# Altium schematic symbol library ISSI SRAM ASynchronous SRAM High Speed Low Power.SchLib: 413 symbols (part 11 of 21)
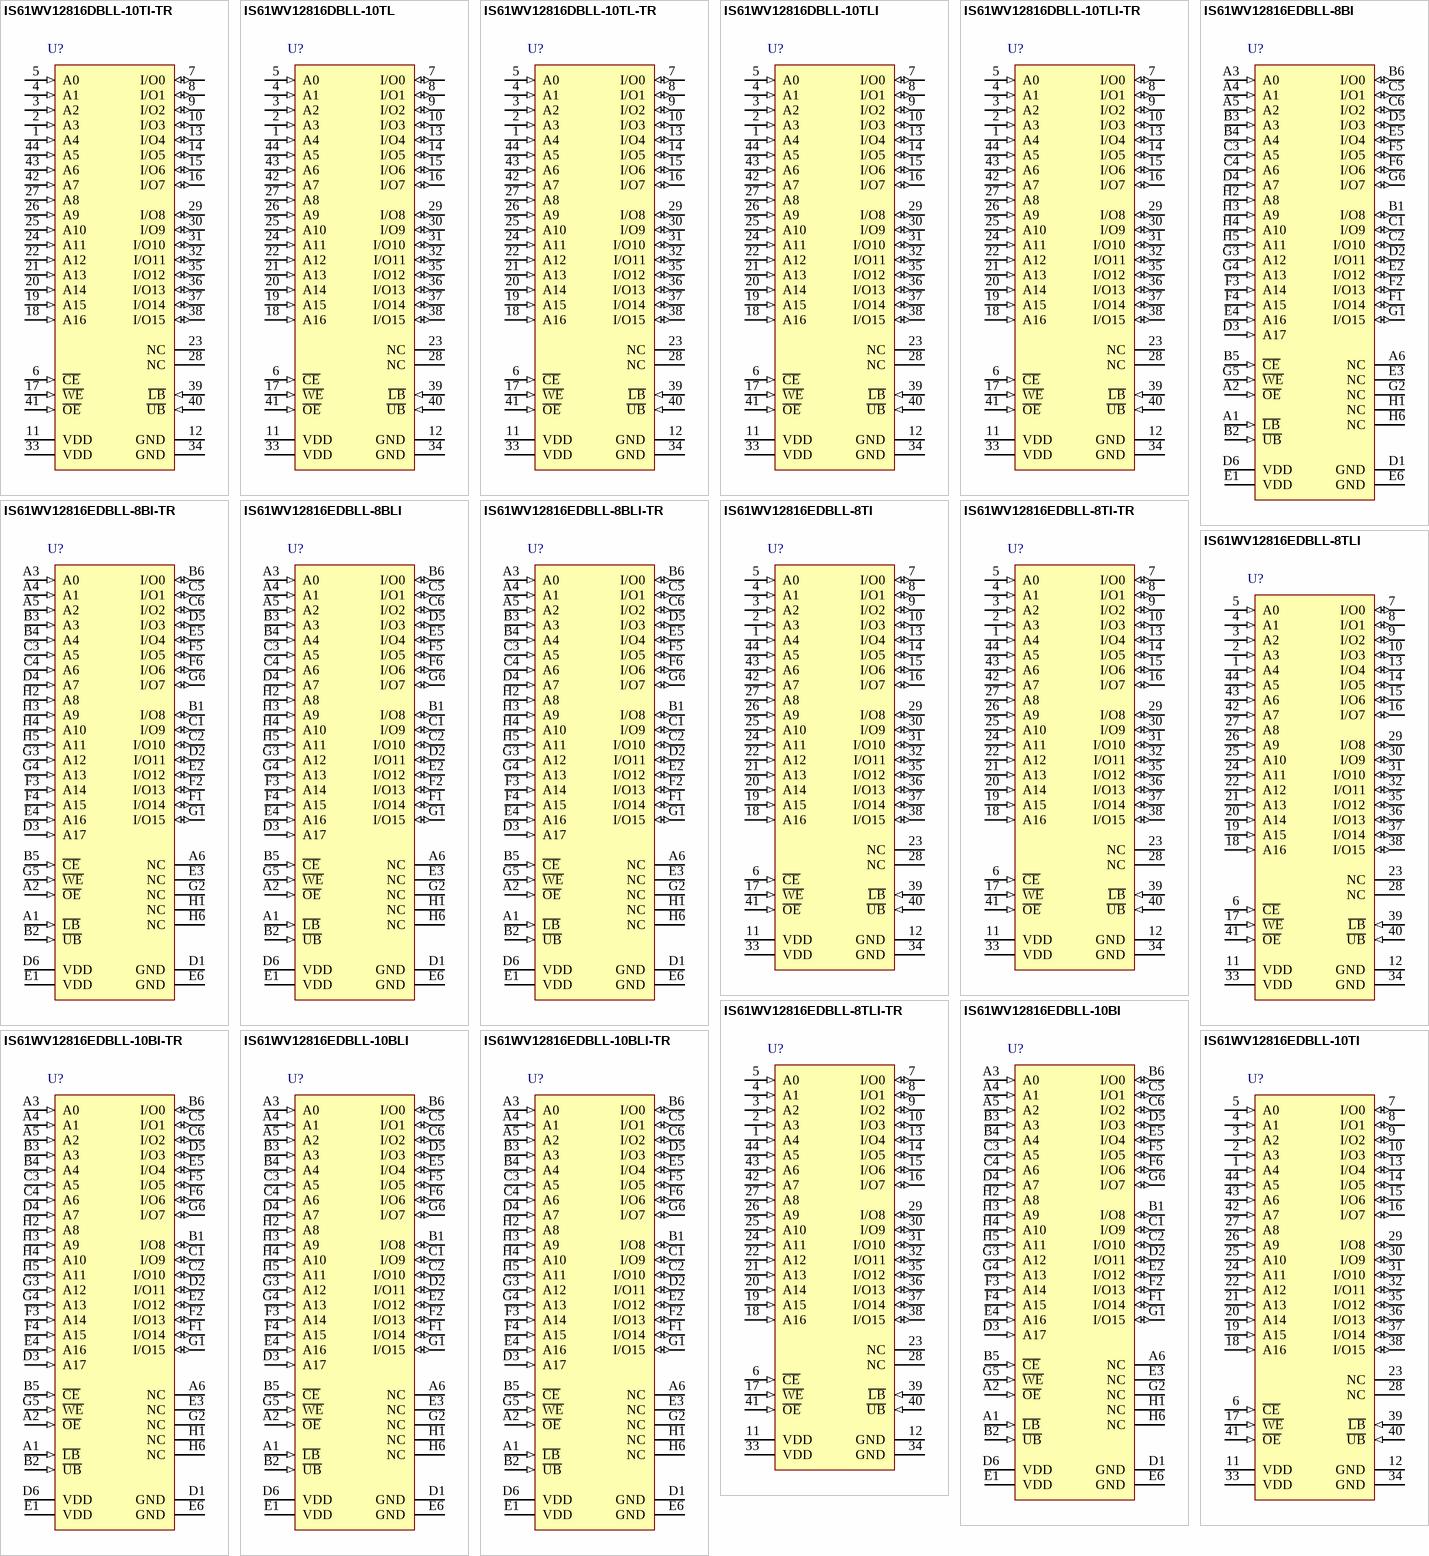
[diagram p38: symbols IS61WV12816DBLL-10TI-TR to IS61WV12816EDBLL-10TI]

## IS61WV12816EDBLL-10BI
designator U?
2 M High Speed Asynchronous CMOS SRAM with ECC, 128 K x 16, -40 to 85 degC, 48-Pin BGA (TF-BGA-48); Manufacturer: Integrated Silicon Solution Inc (ISSI); PartNumber: IS61WV12816EDBLL-10BI; Density: 2M; Packing: Tray / Tube; Speed (ns): 10; DatasheetVersion: Rev. A; PackageVersion: Rev. C, 08/2008; PackageReference: TF-BGA-48; PackageDescription: 48-Pin 6 x 8 mm TF-BGA, Pitch 0.75 mm; Organization: 128K x 16; Mounting Technology: Surface Mount; Code_JEDEC: MO-207; ComponentLink1Description: Manufacturer URL; ComponentLink1URL: http://www.issi.com/US/index.shtml; ComponentLink2Description: Datasheet; ComponentLink2URL: http://www.issi.com/WW/pdf/61-64WV12816EDBLL.pdf; ComponentLink3Description: Package Specification; ComponentLink3URL: http://www.issi.com/WW/pdf/61-64WV25616.pdf
footprint ISSI-TF-BGA-48-6000X8000DE (BGA, 48-Balls, Body 8x6mm, Pitch 0.75mm)
pins: A1 ~{LB} (in) "Lower-byte Control (I/O0-I/O7)", A2 ~{OE} (in) "Output Enable Input", A3 A0 (in) "Address Input", A4 A1 (in) "Address Input", A5 A2 (in) "Address Input", A6 NC "No Connection", B1 I/O8 (io) "Data Input/Output", B2 ~{UB} (in) "Upper-byte Control (I/O8-I/O15)", B3 A3 (in) "Address Input", B4 A4 (in) "Address Input", B5 ~{CE} (in) "Chip Enable Input", B6 I/O0 (io) "Data Input/Output", C1 I/O9 (io) "Data Input/Output", C2 I/O10 (io) "Data Input/Output", C3 A5 (in) "Address Input", C4 A6 (in) "Address Input", C5 I/O1 (io) "Data Input/Output", C6 I/O2 (io) "Data Input/Output", D1 GND (power) "Ground", D2 I/O11 (io) "Data Input/Output", D3 A17 (in) "Address Input", D4 A7 (in) "Address Input", D5 I/O3 (io) "Data Input/Output", D6 VDD (power) "Power", E1 VDD (power) "Power", E2 I/O12 (io) "Data Input/Output", E3 NC "No Connection", E4 A16 (in) "Address Input", E5 I/O4 (io) "Data Input/Output", E6 GND (power) "Ground", F1 I/O14 (io) "Data Input/Output", F2 I/O13 (io) "Data Input/Output", F3 A14 (in) "Address Input", F4 A15 (in) "Address Input", F5 I/O5 (io) "Data Input/Output", F6 I/O6 (io) "Data Input/Output", G1 I/O15 (io) "Data Input/Output", G2 NC "No Connection", G3 A12 (in) "Address Input", G4 A13 (in) "Address Input", G5 ~{WE} (in) "Write Enable Input", G6 I/O7 (io) "Data Input/Output", H1 NC "No Connection", H2 A8 (in) "Address Input", H3 A9 (in) "Address Input", H4 A10 (in) "Address Input", H5 A11 (in) "Address Input", H6 NC "No Connection"

## IS61WV12816EDBLL-10BI-TR
designator U?
2 M High Speed Asynchronous CMOS SRAM with ECC, 128 K x 16, -40 to 85 degC, 48-Pin BGA (TF-BGA-48); Manufacturer: Integrated Silicon Solution Inc (ISSI); PartNumber: IS61WV12816EDBLL-10BI-TR; Density: 2M; Packing: Tape & Reel; Speed (ns): 10; DatasheetVersion: Rev. A; PackageVersion: Rev. C, 08/2008; PackageReference: TF-BGA-48; PackageDescription: 48-Pin 6 x 8 mm TF-BGA, Pitch 0.75 mm; Organization: 128K x 16; Mounting Technology: Surface Mount; Code_JEDEC: MO-207; ComponentLink1Description: Manufacturer URL; ComponentLink1URL: http://www.issi.com/US/index.shtml; ComponentLink2Description: Datasheet; ComponentLink2URL: http://www.issi.com/WW/pdf/61-64WV12816EDBLL.pdf; ComponentLink3Description: Package Specification; ComponentLink3URL: http://www.issi.com/WW/pdf/61-64WV25616.pdf
footprint ISSI-TF-BGA-48-6000X8000DE (BGA, 48-Balls, Body 8x6mm, Pitch 0.75mm)
pins: A1 ~{LB} (in) "Lower-byte Control (I/O0-I/O7)", A2 ~{OE} (in) "Output Enable Input", A3 A0 (in) "Address Input", A4 A1 (in) "Address Input", A5 A2 (in) "Address Input", A6 NC "No Connection", B1 I/O8 (io) "Data Input/Output", B2 ~{UB} (in) "Upper-byte Control (I/O8-I/O15)", B3 A3 (in) "Address Input", B4 A4 (in) "Address Input", B5 ~{CE} (in) "Chip Enable Input", B6 I/O0 (io) "Data Input/Output", C1 I/O9 (io) "Data Input/Output", C2 I/O10 (io) "Data Input/Output", C3 A5 (in) "Address Input", C4 A6 (in) "Address Input", C5 I/O1 (io) "Data Input/Output", C6 I/O2 (io) "Data Input/Output", D1 GND (power) "Ground", D2 I/O11 (io) "Data Input/Output", D3 A17 (in) "Address Input", D4 A7 (in) "Address Input", D5 I/O3 (io) "Data Input/Output", D6 VDD (power) "Power", E1 VDD (power) "Power", E2 I/O12 (io) "Data Input/Output", E3 NC "No Connection", E4 A16 (in) "Address Input", E5 I/O4 (io) "Data Input/Output", E6 GND (power) "Ground", F1 I/O14 (io) "Data Input/Output", F2 I/O13 (io) "Data Input/Output", F3 A14 (in) "Address Input", F4 A15 (in) "Address Input", F5 I/O5 (io) "Data Input/Output", F6 I/O6 (io) "Data Input/Output", G1 I/O15 (io) "Data Input/Output", G2 NC "No Connection", G3 A12 (in) "Address Input", G4 A13 (in) "Address Input", G5 ~{WE} (in) "Write Enable Input", G6 I/O7 (io) "Data Input/Output", H1 NC "No Connection", H2 A8 (in) "Address Input", H3 A9 (in) "Address Input", H4 A10 (in) "Address Input", H5 A11 (in) "Address Input", H6 NC "No Connection"

## IS61WV12816EDBLL-10BLI
designator U?
2 M High Speed Asynchronous CMOS SRAM with ECC, 128 K x 16, -40 to 85 degC, 48-Pin BGA (TF-BGA-48), Pb-Free; Manufacturer: Integrated Silicon Solution Inc (ISSI); PartNumber: IS61WV12816EDBLL-10BLI; Density: 2M; Packing: Tray / Tube; Speed (ns): 10; DatasheetVersion: Rev. A; PackageVersion: Rev. C, 08/2008; PackageReference: TF-BGA-48; PackageDescription: 48-Pin 6 x 8 mm TF-BGA, Pitch 0.75 mm; Organization: 128K x 16; RoHS: Pb-Free; Mounting Technology: Surface Mount; Code_JEDEC: MO-207; ComponentLink1Description: Manufacturer URL; ComponentLink1URL: http://www.issi.com/US/index.shtml; ComponentLink2Description: Datasheet; ComponentLink2URL: http://www.issi.com/WW/pdf/61-64WV12816EDBLL.pdf; ComponentLink3Description: Package Specification; ComponentLink3URL: http://www.issi.com/WW/pdf/61-64WV25616.pdf
footprint ISSI-TF-BGA-48-6000X8000DE (BGA, 48-Balls, Body 8x6mm, Pitch 0.75mm)
pins: A1 ~{LB} (in) "Lower-byte Control (I/O0-I/O7)", A2 ~{OE} (in) "Output Enable Input", A3 A0 (in) "Address Input", A4 A1 (in) "Address Input", A5 A2 (in) "Address Input", A6 NC "No Connection", B1 I/O8 (io) "Data Input/Output", B2 ~{UB} (in) "Upper-byte Control (I/O8-I/O15)", B3 A3 (in) "Address Input", B4 A4 (in) "Address Input", B5 ~{CE} (in) "Chip Enable Input", B6 I/O0 (io) "Data Input/Output", C1 I/O9 (io) "Data Input/Output", C2 I/O10 (io) "Data Input/Output", C3 A5 (in) "Address Input", C4 A6 (in) "Address Input", C5 I/O1 (io) "Data Input/Output", C6 I/O2 (io) "Data Input/Output", D1 GND (power) "Ground", D2 I/O11 (io) "Data Input/Output", D3 A17 (in) "Address Input", D4 A7 (in) "Address Input", D5 I/O3 (io) "Data Input/Output", D6 VDD (power) "Power", E1 VDD (power) "Power", E2 I/O12 (io) "Data Input/Output", E3 NC "No Connection", E4 A16 (in) "Address Input", E5 I/O4 (io) "Data Input/Output", E6 GND (power) "Ground", F1 I/O14 (io) "Data Input/Output", F2 I/O13 (io) "Data Input/Output", F3 A14 (in) "Address Input", F4 A15 (in) "Address Input", F5 I/O5 (io) "Data Input/Output", F6 I/O6 (io) "Data Input/Output", G1 I/O15 (io) "Data Input/Output", G2 NC "No Connection", G3 A12 (in) "Address Input", G4 A13 (in) "Address Input", G5 ~{WE} (in) "Write Enable Input", G6 I/O7 (io) "Data Input/Output", H1 NC "No Connection", H2 A8 (in) "Address Input", H3 A9 (in) "Address Input", H4 A10 (in) "Address Input", H5 A11 (in) "Address Input", H6 NC "No Connection"

## IS61WV12816EDBLL-10BLI-TR
designator U?
2 M High Speed Asynchronous CMOS SRAM with ECC, 128 K x 16, -40 to 85 degC, 48-Pin BGA (TF-BGA-48), Pb-Free; Manufacturer: Integrated Silicon Solution Inc (ISSI); PartNumber: IS61WV12816EDBLL-10BLI-TR; Density: 2M; Packing: Tape & Reel; Speed (ns): 10; DatasheetVersion: Rev. A; PackageVersion: Rev. C, 08/2008; PackageReference: TF-BGA-48; PackageDescription: 48-Pin 6 x 8 mm TF-BGA, Pitch 0.75 mm; Organization: 128K x 16; RoHS: Pb-Free; Mounting Technology: Surface Mount; Code_JEDEC: MO-207; ComponentLink1Description: Manufacturer URL; ComponentLink1URL: http://www.issi.com/US/index.shtml; ComponentLink2Description: Datasheet; ComponentLink2URL: http://www.issi.com/WW/pdf/61-64WV12816EDBLL.pdf; ComponentLink3Description: Package Specification; ComponentLink3URL: http://www.issi.com/WW/pdf/61-64WV25616.pdf
footprint ISSI-TF-BGA-48-6000X8000DE (BGA, 48-Balls, Body 8x6mm, Pitch 0.75mm)
pins: A1 ~{LB} (in) "Lower-byte Control (I/O0-I/O7)", A2 ~{OE} (in) "Output Enable Input", A3 A0 (in) "Address Input", A4 A1 (in) "Address Input", A5 A2 (in) "Address Input", A6 NC "No Connection", B1 I/O8 (io) "Data Input/Output", B2 ~{UB} (in) "Upper-byte Control (I/O8-I/O15)", B3 A3 (in) "Address Input", B4 A4 (in) "Address Input", B5 ~{CE} (in) "Chip Enable Input", B6 I/O0 (io) "Data Input/Output", C1 I/O9 (io) "Data Input/Output", C2 I/O10 (io) "Data Input/Output", C3 A5 (in) "Address Input", C4 A6 (in) "Address Input", C5 I/O1 (io) "Data Input/Output", C6 I/O2 (io) "Data Input/Output", D1 GND (power) "Ground", D2 I/O11 (io) "Data Input/Output", D3 A17 (in) "Address Input", D4 A7 (in) "Address Input", D5 I/O3 (io) "Data Input/Output", D6 VDD (power) "Power", E1 VDD (power) "Power", E2 I/O12 (io) "Data Input/Output", E3 NC "No Connection", E4 A16 (in) "Address Input", E5 I/O4 (io) "Data Input/Output", E6 GND (power) "Ground", F1 I/O14 (io) "Data Input/Output", F2 I/O13 (io) "Data Input/Output", F3 A14 (in) "Address Input", F4 A15 (in) "Address Input", F5 I/O5 (io) "Data Input/Output", F6 I/O6 (io) "Data Input/Output", G1 I/O15 (io) "Data Input/Output", G2 NC "No Connection", G3 A12 (in) "Address Input", G4 A13 (in) "Address Input", G5 ~{WE} (in) "Write Enable Input", G6 I/O7 (io) "Data Input/Output", H1 NC "No Connection", H2 A8 (in) "Address Input", H3 A9 (in) "Address Input", H4 A10 (in) "Address Input", H5 A11 (in) "Address Input", H6 NC "No Connection"

## IS61WV12816EDBLL-10TI
designator U?
2 M High Speed Asynchronous CMOS SRAM with ECC, 128 K x 16, -40 to 85 degC, 44-Pin SOP (TSOP-2-44); Manufacturer: Integrated Silicon Solution Inc (ISSI); PartNumber: IS61WV12816EDBLL-10TI; Density: 2M; Packing: Tray / Tube; Speed (ns): 10; DatasheetVersion: Rev. A; PackageVersion: Rev. F, 06/2008; PackageReference: TSOP-2-44; PackageDescription: 44-Pin 400 mil TSOP-2, Body 18.41 x 10.16 mm, Pitch 0.8 mm; Organization: 128K x 16; Mounting Technology: Surface Mount; ComponentLink1Description: Manufacturer URL; ComponentLink1URL: http://www.issi.com/US/index.shtml; ComponentLink2Description: Datasheet; ComponentLink2URL: http://www.issi.com/WW/pdf/61-64WV12816EDBLL.pdf; ComponentLink3Description: Package Specification; ComponentLink3URL: http://www.issi.com/WW/pdf/61-64WV6416EEBLL.pdf
footprint ISSI-TSOP-2-44_N (SOP, 44-Leads, Body 18.5x10.3mm, Pitch 0.8mm, IPC Medium Density)
pins: 1 A4 (in) "Address Input", 2 A3 (in) "Address Input", 3 A2 (in) "Address Input", 4 A1 (in) "Address Input", 5 A0 (in) "Address Input", 6 ~{CE} (in) "Chip Enable Input", 7 I/O0 (io) "Data Input/Output", 8 I/O1 (io) "Data Input/Output", 9 I/O2 (io) "Data Input/Output", 10 I/O3 (io) "Data Input/Output", 11 VDD (power) "Power", 12 GND (power) "Ground", 13 I/O4 (io) "Data Input/Output", 14 I/O5 (io) "Data Input/Output", 15 I/O6 (io) "Data Input/Output", 16 I/O7 (io) "Data Input/Output", 17 ~{WE} (in) "Write Enable Input", 18 A16 (in) "Address Input", 19 A15 (in) "Address Input", 20 A14 (in) "Address Input", 21 A13 (in) "Address Input", 22 A12 (in) "Address Input", 23 NC "No Connection", 24 A11 (in) "Address Input", 25 A10 (in) "Address Input", 26 A9 (in) "Address Input", 27 A8 (in) "Address Input", 28 NC "No Connection", 29 I/O8 (io) "Data Input/Output", 30 I/O9 (io) "Data Input/Output", 31 I/O10 (io) "Data Input/Output", 32 I/O11 (io) "Data Input/Output", 33 VDD (power) "Power", 34 GND (power) "Ground", 35 I/O12 (io) "Data Input/Output", 36 I/O13 (io) "Data Input/Output", 37 I/O14 (io) "Data Input/Output", 38 I/O15 (io) "Data Input/Output", 39 ~{LB} (in) "Lower-byte Control (I/O0-I/O7)", 40 ~{UB} (in) "Upper-byte Control (I/O8-I/O15)", 41 ~{OE} (in) "Output Enable Input", 42 A7 (in) "Address Input", 43 A6 (in) "Address Input", 44 A5 (in) "Address Input"

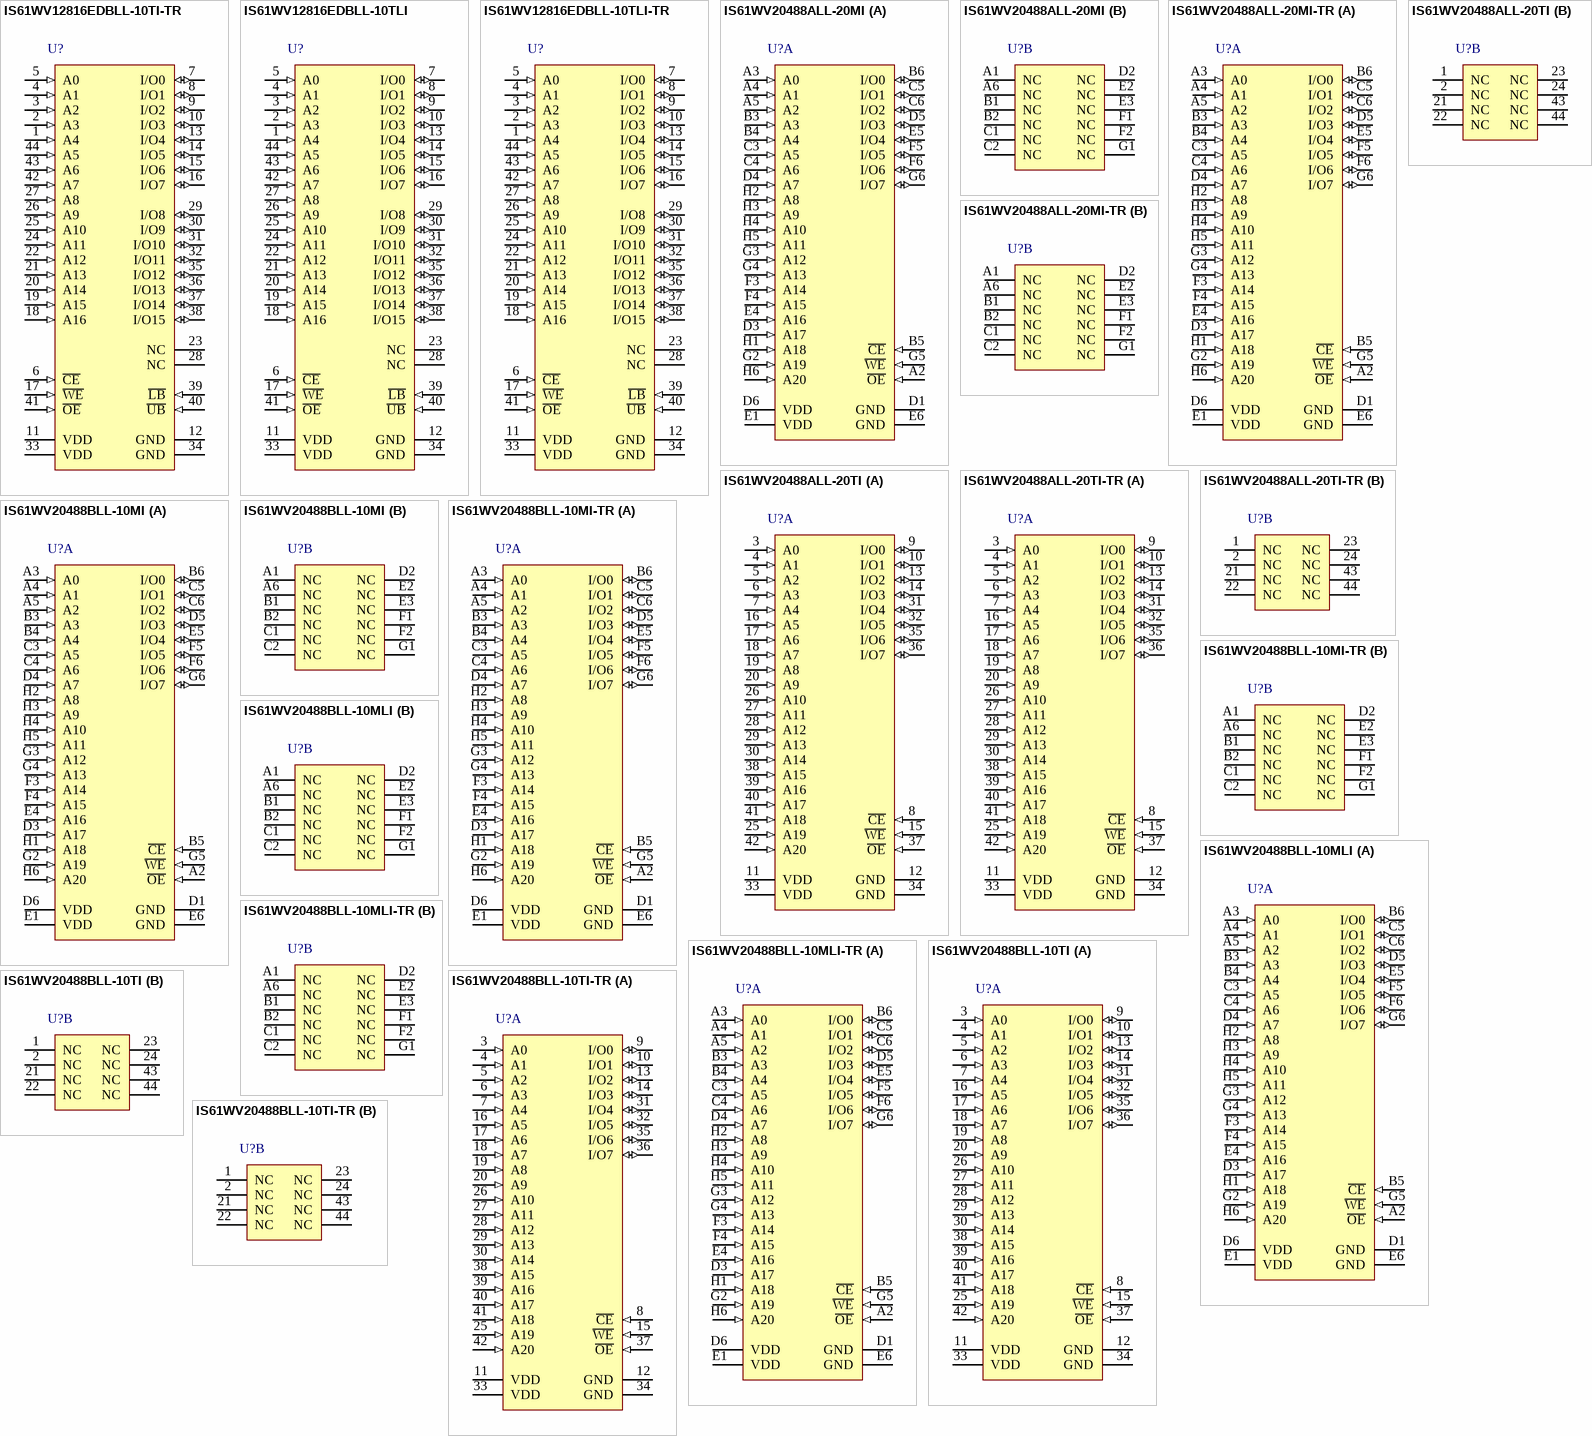
[diagram p15: symbols IS61WV12816EDBLL-10TI-TR to IS61WV20488BLL-10TI-TR]

## IS61WV12816EDBLL-10TI-TR
designator U?
2 M High Speed Asynchronous CMOS SRAM with ECC, 128 K x 16, -40 to 85 degC, 44-Pin SOP (TSOP-2-44); Manufacturer: Integrated Silicon Solution Inc (ISSI); PartNumber: IS61WV12816EDBLL-10TI-TR; Density: 2M; Packing: Tape & Reel; Speed (ns): 10; DatasheetVersion: Rev. A; PackageVersion: Rev. F, 06/2008; PackageReference: TSOP-2-44; PackageDescription: 44-Pin 400 mil TSOP-2, Body 18.41 x 10.16 mm, Pitch 0.8 mm; Organization: 128K x 16; Mounting Technology: Surface Mount; ComponentLink1Description: Manufacturer URL; ComponentLink1URL: http://www.issi.com/US/index.shtml; ComponentLink2Description: Datasheet; ComponentLink2URL: http://www.issi.com/WW/pdf/61-64WV12816EDBLL.pdf; ComponentLink3Description: Package Specification; ComponentLink3URL: http://www.issi.com/WW/pdf/61-64WV6416EEBLL.pdf
footprint ISSI-TSOP-2-44_N (SOP, 44-Leads, Body 18.5x10.3mm, Pitch 0.8mm, IPC Medium Density)
pins: 1 A4 (in) "Address Input", 2 A3 (in) "Address Input", 3 A2 (in) "Address Input", 4 A1 (in) "Address Input", 5 A0 (in) "Address Input", 6 ~{CE} (in) "Chip Enable Input", 7 I/O0 (io) "Data Input/Output", 8 I/O1 (io) "Data Input/Output", 9 I/O2 (io) "Data Input/Output", 10 I/O3 (io) "Data Input/Output", 11 VDD (power) "Power", 12 GND (power) "Ground", 13 I/O4 (io) "Data Input/Output", 14 I/O5 (io) "Data Input/Output", 15 I/O6 (io) "Data Input/Output", 16 I/O7 (io) "Data Input/Output", 17 ~{WE} (in) "Write Enable Input", 18 A16 (in) "Address Input", 19 A15 (in) "Address Input", 20 A14 (in) "Address Input", 21 A13 (in) "Address Input", 22 A12 (in) "Address Input", 23 NC "No Connection", 24 A11 (in) "Address Input", 25 A10 (in) "Address Input", 26 A9 (in) "Address Input", 27 A8 (in) "Address Input", 28 NC "No Connection", 29 I/O8 (io) "Data Input/Output", 30 I/O9 (io) "Data Input/Output", 31 I/O10 (io) "Data Input/Output", 32 I/O11 (io) "Data Input/Output", 33 VDD (power) "Power", 34 GND (power) "Ground", 35 I/O12 (io) "Data Input/Output", 36 I/O13 (io) "Data Input/Output", 37 I/O14 (io) "Data Input/Output", 38 I/O15 (io) "Data Input/Output", 39 ~{LB} (in) "Lower-byte Control (I/O0-I/O7)", 40 ~{UB} (in) "Upper-byte Control (I/O8-I/O15)", 41 ~{OE} (in) "Output Enable Input", 42 A7 (in) "Address Input", 43 A6 (in) "Address Input", 44 A5 (in) "Address Input"

## IS61WV12816EDBLL-10TLI
designator U?
2 M High Speed Asynchronous CMOS SRAM with ECC, 128 K x 16, -40 to 85 degC, 44-Pin SOP (TSOP-2-44), Pb-Free; Manufacturer: Integrated Silicon Solution Inc (ISSI); PartNumber: IS61WV12816EDBLL-10TLI; Density: 2M; Packing: Tray / Tube; Speed (ns): 10; DatasheetVersion: Rev. A; PackageVersion: Rev. F, 06/2008; PackageReference: TSOP-2-44; PackageDescription: 44-Pin 400 mil TSOP-2, Body 18.41 x 10.16 mm, Pitch 0.8 mm; Supplier 1: Newark; Supplier Part Number 1: 77T0762; Supplier 2: Mouser; Supplier Part Number 2: 870-61WV12816D10TLI; Organization: 128K x 16; RoHS: Pb-Free; Mounting Technology: Surface Mount; ComponentLink1Description: Manufacturer URL; ComponentLink1URL: http://www.issi.com/US/index.shtml; ComponentLink2Description: Datasheet; ComponentLink2URL: http://www.issi.com/WW/pdf/61-64WV12816EDBLL.pdf; ComponentLink3Description: Package Specification; ComponentLink3URL: http://www.issi.com/WW/pdf/61-64WV6416EEBLL.pdf
footprint ISSI-TSOP-2-44_N (SOP, 44-Leads, Body 18.5x10.3mm, Pitch 0.8mm, IPC Medium Density)
pins: 1 A4 (in) "Address Input", 2 A3 (in) "Address Input", 3 A2 (in) "Address Input", 4 A1 (in) "Address Input", 5 A0 (in) "Address Input", 6 ~{CE} (in) "Chip Enable Input", 7 I/O0 (io) "Data Input/Output", 8 I/O1 (io) "Data Input/Output", 9 I/O2 (io) "Data Input/Output", 10 I/O3 (io) "Data Input/Output", 11 VDD (power) "Power", 12 GND (power) "Ground", 13 I/O4 (io) "Data Input/Output", 14 I/O5 (io) "Data Input/Output", 15 I/O6 (io) "Data Input/Output", 16 I/O7 (io) "Data Input/Output", 17 ~{WE} (in) "Write Enable Input", 18 A16 (in) "Address Input", 19 A15 (in) "Address Input", 20 A14 (in) "Address Input", 21 A13 (in) "Address Input", 22 A12 (in) "Address Input", 23 NC "No Connection", 24 A11 (in) "Address Input", 25 A10 (in) "Address Input", 26 A9 (in) "Address Input", 27 A8 (in) "Address Input", 28 NC "No Connection", 29 I/O8 (io) "Data Input/Output", 30 I/O9 (io) "Data Input/Output", 31 I/O10 (io) "Data Input/Output", 32 I/O11 (io) "Data Input/Output", 33 VDD (power) "Power", 34 GND (power) "Ground", 35 I/O12 (io) "Data Input/Output", 36 I/O13 (io) "Data Input/Output", 37 I/O14 (io) "Data Input/Output", 38 I/O15 (io) "Data Input/Output", 39 ~{LB} (in) "Lower-byte Control (I/O0-I/O7)", 40 ~{UB} (in) "Upper-byte Control (I/O8-I/O15)", 41 ~{OE} (in) "Output Enable Input", 42 A7 (in) "Address Input", 43 A6 (in) "Address Input", 44 A5 (in) "Address Input"

## IS61WV12816EDBLL-10TLI-TR
designator U?
2 M High Speed Asynchronous CMOS SRAM with ECC, 128 K x 16, -40 to 85 degC, 44-Pin SOP (TSOP-2-44), Pb-Free; Manufacturer: Integrated Silicon Solution Inc (ISSI); PartNumber: IS61WV12816EDBLL-10TLI-TR; Density: 2M; Packing: Tape & Reel; Speed (ns): 10; DatasheetVersion: Rev. A; PackageVersion: Rev. F, 06/2008; PackageReference: TSOP-2-44; PackageDescription: 44-Pin 400 mil TSOP-2, Body 18.41 x 10.16 mm, Pitch 0.8 mm; Supplier 1: Newark; Supplier Part Number 1: 77T0763; Supplier 2: Mouser; Supplier Part Number 2: 870-6112816EDLL10TLI; Organization: 128K x 16; RoHS: Pb-Free; Mounting Technology: Surface Mount; ComponentLink1Description: Manufacturer URL; ComponentLink1URL: http://www.issi.com/US/index.shtml; ComponentLink2Description: Datasheet; ComponentLink2URL: http://www.issi.com/WW/pdf/61-64WV12816EDBLL.pdf; ComponentLink3Description: Package Specification; ComponentLink3URL: http://www.issi.com/WW/pdf/61-64WV6416EEBLL.pdf
footprint ISSI-TSOP-2-44_N (SOP, 44-Leads, Body 18.5x10.3mm, Pitch 0.8mm, IPC Medium Density)
pins: 1 A4 (in) "Address Input", 2 A3 (in) "Address Input", 3 A2 (in) "Address Input", 4 A1 (in) "Address Input", 5 A0 (in) "Address Input", 6 ~{CE} (in) "Chip Enable Input", 7 I/O0 (io) "Data Input/Output", 8 I/O1 (io) "Data Input/Output", 9 I/O2 (io) "Data Input/Output", 10 I/O3 (io) "Data Input/Output", 11 VDD (power) "Power", 12 GND (power) "Ground", 13 I/O4 (io) "Data Input/Output", 14 I/O5 (io) "Data Input/Output", 15 I/O6 (io) "Data Input/Output", 16 I/O7 (io) "Data Input/Output", 17 ~{WE} (in) "Write Enable Input", 18 A16 (in) "Address Input", 19 A15 (in) "Address Input", 20 A14 (in) "Address Input", 21 A13 (in) "Address Input", 22 A12 (in) "Address Input", 23 NC "No Connection", 24 A11 (in) "Address Input", 25 A10 (in) "Address Input", 26 A9 (in) "Address Input", 27 A8 (in) "Address Input", 28 NC "No Connection", 29 I/O8 (io) "Data Input/Output", 30 I/O9 (io) "Data Input/Output", 31 I/O10 (io) "Data Input/Output", 32 I/O11 (io) "Data Input/Output", 33 VDD (power) "Power", 34 GND (power) "Ground", 35 I/O12 (io) "Data Input/Output", 36 I/O13 (io) "Data Input/Output", 37 I/O14 (io) "Data Input/Output", 38 I/O15 (io) "Data Input/Output", 39 ~{LB} (in) "Lower-byte Control (I/O0-I/O7)", 40 ~{UB} (in) "Upper-byte Control (I/O8-I/O15)", 41 ~{OE} (in) "Output Enable Input", 42 A7 (in) "Address Input", 43 A6 (in) "Address Input", 44 A5 (in) "Address Input"

## IS61WV20488ALL-20MI
designator U?
16 M High Speed CMOS SRAM, 2 M x 8, -40 to 85 degC, 48-Pin BGA (TF-BGA-48); Manufacturer: Integrated Silicon Solution Inc (ISSI); PartNumber: IS61WV20488ALL-20MI; Organization: 2M x 8; Packing: Tray / Tube; Speed (ns): 20; DatasheetVersion: Rev. B; PackageVersion: Rev. B, 08/2008; PackageReference: TF-BGA-48; PackageDescription: 48-Pin 9 x 11 mm TF-BGA, Pitch 0.75 mm; Mounting Technology: Surface Mount; Code_JEDEC: MO-207; ComponentLink1Description: Manufacturer URL; ComponentLink1URL: http://www.issi.com/US/index.shtml; ComponentLink2Description: Datasheet; ComponentLink2URL: http://www.issi.com/WW/pdf/61-64WV20488.pdf; ComponentLink3Description: Package Specification; ComponentLink3URL: http://www.issi.com/WW/pdf/61-64WV51216.pdf
footprint ISSI-TF-BGA-48-9000x11000DE (BGA, 48-Balls, Body 11x9mm, Pitch 0.75mm)
part A pins: A2 ~{OE} (in) "Output Enable Input", A3 A0 (in) "Address Input", A4 A1 (in) "Address Input", A5 A2 (in) "Address Input", B3 A3 (in) "Address Input", B4 A4 (in) "Address Input", B5 ~{CE} (in) "Chip Enable Input", B6 I/O0 (io) "Data Input / Output", C3 A5 (in) "Address Input", C4 A6 (in) "Address Input", C5 I/O1 (io) "Data Input / Output", C6 I/O2 (io) "Data Input / Output", D1 GND (power) "Ground", D3 A17 (in) "Address Input", D4 A7 (in) "Address Input", D5 I/O3 (io) "Data Input / Output", D6 VDD (power) "Power", E1 VDD (power) "Power", E4 A16 (in) "Address Input", E5 I/O4 (io) "Data Input / Output", E6 GND (power) "Ground", F3 A14 (in) "Address Input", F4 A15 (in) "Address Input", F5 I/O5 (io) "Data Input / Output", F6 I/O6 (io) "Data Input / Output", G2 A19 (in) "Address Input", G3 A12 (in) "Address Input", G4 A13 (in) "Address Input", G5 ~{WE} (in) "Write Enable Input", G6 I/O7 (io) "Data Input / Output", H1 A18 (in) "Address Input", H2 A8 (in) "Address Input", H3 A9 (in) "Address Input", H4 A10 (in) "Address Input", H5 A11 (in) "Address Input", H6 A20 (in) "Address Input"
part B pins: A1 NC "No Connection", A6 NC "No Connection", B1 NC "No Connection", B2 NC "No Connection", C1 NC "No Connection", C2 NC "No Connection", D2 NC "No Connection", E2 NC "No Connection", E3 NC "No Connection", F1 NC "No Connection", F2 NC "No Connection", G1 NC "No Connection"

## IS61WV20488ALL-20MI-TR
designator U?
16 M High Speed CMOS SRAM, 2 M x 8, -40 to 85 degC, 48-Pin BGA (TF-BGA-48); Manufacturer: Integrated Silicon Solution Inc (ISSI); PartNumber: IS61WV20488ALL-20MI-TR; Organization: 2M x 8; Packing: Tape & Reel; Speed (ns): 20; DatasheetVersion: Rev. B; PackageVersion: Rev. B, 08/2008; PackageReference: TF-BGA-48; PackageDescription: 48-Pin 9 x 11 mm TF-BGA, Pitch 0.75 mm; Mounting Technology: Surface Mount; Code_JEDEC: MO-207; ComponentLink1Description: Manufacturer URL; ComponentLink1URL: http://www.issi.com/US/index.shtml; ComponentLink2Description: Datasheet; ComponentLink2URL: http://www.issi.com/WW/pdf/61-64WV20488.pdf; ComponentLink3Description: Package Specification; ComponentLink3URL: http://www.issi.com/WW/pdf/61-64WV51216.pdf
footprint ISSI-TF-BGA-48-9000x11000DE (BGA, 48-Balls, Body 11x9mm, Pitch 0.75mm)
part A pins: A2 ~{OE} (in) "Output Enable Input", A3 A0 (in) "Address Input", A4 A1 (in) "Address Input", A5 A2 (in) "Address Input", B3 A3 (in) "Address Input", B4 A4 (in) "Address Input", B5 ~{CE} (in) "Chip Enable Input", B6 I/O0 (io) "Data Input / Output", C3 A5 (in) "Address Input", C4 A6 (in) "Address Input", C5 I/O1 (io) "Data Input / Output", C6 I/O2 (io) "Data Input / Output", D1 GND (power) "Ground", D3 A17 (in) "Address Input", D4 A7 (in) "Address Input", D5 I/O3 (io) "Data Input / Output", D6 VDD (power) "Power", E1 VDD (power) "Power", E4 A16 (in) "Address Input", E5 I/O4 (io) "Data Input / Output", E6 GND (power) "Ground", F3 A14 (in) "Address Input", F4 A15 (in) "Address Input", F5 I/O5 (io) "Data Input / Output", F6 I/O6 (io) "Data Input / Output", G2 A19 (in) "Address Input", G3 A12 (in) "Address Input", G4 A13 (in) "Address Input", G5 ~{WE} (in) "Write Enable Input", G6 I/O7 (io) "Data Input / Output", H1 A18 (in) "Address Input", H2 A8 (in) "Address Input", H3 A9 (in) "Address Input", H4 A10 (in) "Address Input", H5 A11 (in) "Address Input", H6 A20 (in) "Address Input"
part B pins: A1 NC "No Connection", A6 NC "No Connection", B1 NC "No Connection", B2 NC "No Connection", C1 NC "No Connection", C2 NC "No Connection", D2 NC "No Connection", E2 NC "No Connection", E3 NC "No Connection", F1 NC "No Connection", F2 NC "No Connection", G1 NC "No Connection"

## IS61WV20488ALL-20TI
designator U?
16 M High Speed CMOS SRAM, 2 M x 8, -40 to 85 degC, 44-Pin SOP (TSOP-2-44); Manufacturer: Integrated Silicon Solution Inc (ISSI); PartNumber: IS61WV20488ALL-20TI; Organization: 2M x 8; Packing: Tray / Tube; Speed (ns): 20; DatasheetVersion: Rev. B; PackageVersion: Rev. F, 06/2008; PackageReference: TSOP-2-44; PackageDescription: 44-Pin 400 mil TSOP-2, Body 18.41 x 10.16 mm, Pitch 0.8 mm; Mounting Technology: Surface Mount; ComponentLink1Description: Manufacturer URL; ComponentLink1URL: http://www.issi.com/US/index.shtml; ComponentLink2Description: Datasheet; ComponentLink2URL: http://www.issi.com/WW/pdf/61-64WV20488.pdf; ComponentLink3Description: Package Specification; ComponentLink3URL: http://www.issi.com/WW/pdf/61-64WV6416EEBLL.pdf
footprint ISSI-TSOP-2-44_N (SOP, 44-Leads, Body 18.5x10.3mm, Pitch 0.8mm, IPC Medium Density)
part A pins: 3 A0 (in) "Address Inputs", 4 A1 (in) "Address Inputs", 5 A2 (in) "Address Inputs", 6 A3 (in) "Address Inputs", 7 A4 (in) "Address Inputs", 8 ~{CE} (in) "Chip Enable Input", 9 I/O0 (io) "Data Input / Output", 10 I/O1 (io) "Data Input / Output", 11 VDD (power) "Power", 12 GND (power) "Ground", 13 I/O2 (io) "Data Input / Output", 14 I/O3 (io) "Data Input / Output", 15 ~{WE} (in) "Write Enable Input", 16 A5 (in) "Address Inputs", 17 A6 (in) "Address Inputs", 18 A7 (in) "Address Inputs", 19 A8 (in) "Address Inputs", 20 A9 (in) "Address Inputs", 25 A19 (in) "Address Inputs", 26 A10 (in) "Address Inputs", 27 A11 (in) "Address Inputs", 28 A12 (in) "Address Inputs", 29 A13 (in) "Address Inputs", 30 A14 (in) "Address Inputs", 31 I/O4 (io) "Data Input / Output", 32 I/O5 (io) "Data Input / Output", 33 VDD (power) "Power", 34 GND (power) "Ground", 35 I/O6 (io) "Data Input / Output", 36 I/O7 (io) "Data Input / Output", 37 ~{OE} (in) "Output Enable Input", 38 A15 (in) "Address Inputs", 39 A16 (in) "Address Inputs", 40 A17 (in) "Address Inputs", 41 A18 (in) "Address Inputs", 42 A20 (in) "Address Inputs"
part B pins: 1 NC "No Connection", 2 NC "No Connection", 21 NC "No Connection", 22 NC "No Connection", 23 NC "No Connection", 24 NC "No Connection", 43 NC "No Connection", 44 NC "No Connection"

## IS61WV20488ALL-20TI-TR
designator U?
16 M High Speed CMOS SRAM, 2 M x 8, -40 to 85 degC, 44-Pin SOP (TSOP-2-44); Manufacturer: Integrated Silicon Solution Inc (ISSI); PartNumber: IS61WV20488ALL-20TI-TR; Organization: 2M x 8; Packing: Tape & Reel; Speed (ns): 20; DatasheetVersion: Rev. B; PackageVersion: Rev. F, 06/2008; PackageReference: TSOP-2-44; PackageDescription: 44-Pin 400 mil TSOP-2, Body 18.41 x 10.16 mm, Pitch 0.8 mm; Mounting Technology: Surface Mount; ComponentLink1Description: Manufacturer URL; ComponentLink1URL: http://www.issi.com/US/index.shtml; ComponentLink2Description: Datasheet; ComponentLink2URL: http://www.issi.com/WW/pdf/61-64WV20488.pdf; ComponentLink3Description: Package Specification; ComponentLink3URL: http://www.issi.com/WW/pdf/61-64WV6416EEBLL.pdf
footprint ISSI-TSOP-2-44_N (SOP, 44-Leads, Body 18.5x10.3mm, Pitch 0.8mm, IPC Medium Density)
part A pins: 3 A0 (in) "Address Inputs", 4 A1 (in) "Address Inputs", 5 A2 (in) "Address Inputs", 6 A3 (in) "Address Inputs", 7 A4 (in) "Address Inputs", 8 ~{CE} (in) "Chip Enable Input", 9 I/O0 (io) "Data Input / Output", 10 I/O1 (io) "Data Input / Output", 11 VDD (power) "Power", 12 GND (power) "Ground", 13 I/O2 (io) "Data Input / Output", 14 I/O3 (io) "Data Input / Output", 15 ~{WE} (in) "Write Enable Input", 16 A5 (in) "Address Inputs", 17 A6 (in) "Address Inputs", 18 A7 (in) "Address Inputs", 19 A8 (in) "Address Inputs", 20 A9 (in) "Address Inputs", 25 A19 (in) "Address Inputs", 26 A10 (in) "Address Inputs", 27 A11 (in) "Address Inputs", 28 A12 (in) "Address Inputs", 29 A13 (in) "Address Inputs", 30 A14 (in) "Address Inputs", 31 I/O4 (io) "Data Input / Output", 32 I/O5 (io) "Data Input / Output", 33 VDD (power) "Power", 34 GND (power) "Ground", 35 I/O6 (io) "Data Input / Output", 36 I/O7 (io) "Data Input / Output", 37 ~{OE} (in) "Output Enable Input", 38 A15 (in) "Address Inputs", 39 A16 (in) "Address Inputs", 40 A17 (in) "Address Inputs", 41 A18 (in) "Address Inputs", 42 A20 (in) "Address Inputs"
part B pins: 1 NC "No Connection", 2 NC "No Connection", 21 NC "No Connection", 22 NC "No Connection", 23 NC "No Connection", 24 NC "No Connection", 43 NC "No Connection", 44 NC "No Connection"

## IS61WV20488BLL-10MI
designator U?
16 M High Speed CMOS SRAM, 2 M x 8, -40 to 85 degC, 48-Pin BGA (TF-BGA-48); Manufacturer: Integrated Silicon Solution Inc (ISSI); PartNumber: IS61WV20488BLL-10MI; Organization: 2M x 8; Packing: Tray / Tube; Speed (ns): 10; DatasheetVersion: Rev. B; PackageVersion: Rev. B, 08/2008; PackageReference: TF-BGA-48; PackageDescription: 48-Pin 9 x 11 mm TF-BGA, Pitch 0.75 mm; Mounting Technology: Surface Mount; Code_JEDEC: MO-207; ComponentLink1Description: Manufacturer URL; ComponentLink1URL: http://www.issi.com/US/index.shtml; ComponentLink2Description: Datasheet; ComponentLink2URL: http://www.issi.com/WW/pdf/61-64WV20488.pdf; ComponentLink3Description: Package Specification; ComponentLink3URL: http://www.issi.com/WW/pdf/61-64WV51216.pdf
footprint ISSI-TF-BGA-48-9000x11000DE (BGA, 48-Balls, Body 11x9mm, Pitch 0.75mm)
part A pins: A2 ~{OE} (in) "Output Enable Input", A3 A0 (in) "Address Input", A4 A1 (in) "Address Input", A5 A2 (in) "Address Input", B3 A3 (in) "Address Input", B4 A4 (in) "Address Input", B5 ~{CE} (in) "Chip Enable Input", B6 I/O0 (io) "Data Input / Output", C3 A5 (in) "Address Input", C4 A6 (in) "Address Input", C5 I/O1 (io) "Data Input / Output", C6 I/O2 (io) "Data Input / Output", D1 GND (power) "Ground", D3 A17 (in) "Address Input", D4 A7 (in) "Address Input", D5 I/O3 (io) "Data Input / Output", D6 VDD (power) "Power", E1 VDD (power) "Power", E4 A16 (in) "Address Input", E5 I/O4 (io) "Data Input / Output", E6 GND (power) "Ground", F3 A14 (in) "Address Input", F4 A15 (in) "Address Input", F5 I/O5 (io) "Data Input / Output", F6 I/O6 (io) "Data Input / Output", G2 A19 (in) "Address Input", G3 A12 (in) "Address Input", G4 A13 (in) "Address Input", G5 ~{WE} (in) "Write Enable Input", G6 I/O7 (io) "Data Input / Output", H1 A18 (in) "Address Input", H2 A8 (in) "Address Input", H3 A9 (in) "Address Input", H4 A10 (in) "Address Input", H5 A11 (in) "Address Input", H6 A20 (in) "Address Input"
part B pins: A1 NC "No Connection", A6 NC "No Connection", B1 NC "No Connection", B2 NC "No Connection", C1 NC "No Connection", C2 NC "No Connection", D2 NC "No Connection", E2 NC "No Connection", E3 NC "No Connection", F1 NC "No Connection", F2 NC "No Connection", G1 NC "No Connection"

## IS61WV20488BLL-10MI-TR
designator U?
16 M High Speed CMOS SRAM, 2 M x 8, -40 to 85 degC, 48-Pin BGA (TF-BGA-48); Manufacturer: Integrated Silicon Solution Inc (ISSI); PartNumber: IS61WV20488BLL-10MI-TR; Organization: 2M x 8; Packing: Tape & Reel; Speed (ns): 10; DatasheetVersion: Rev. B; PackageVersion: Rev. B, 08/2008; PackageReference: TF-BGA-48; PackageDescription: 48-Pin 9 x 11 mm TF-BGA, Pitch 0.75 mm; Mounting Technology: Surface Mount; Code_JEDEC: MO-207; ComponentLink1Description: Manufacturer URL; ComponentLink1URL: http://www.issi.com/US/index.shtml; ComponentLink2Description: Datasheet; ComponentLink2URL: http://www.issi.com/WW/pdf/61-64WV20488.pdf; ComponentLink3Description: Package Specification; ComponentLink3URL: http://www.issi.com/WW/pdf/61-64WV51216.pdf
footprint ISSI-TF-BGA-48-9000x11000DE (BGA, 48-Balls, Body 11x9mm, Pitch 0.75mm)
part A pins: A2 ~{OE} (in) "Output Enable Input", A3 A0 (in) "Address Input", A4 A1 (in) "Address Input", A5 A2 (in) "Address Input", B3 A3 (in) "Address Input", B4 A4 (in) "Address Input", B5 ~{CE} (in) "Chip Enable Input", B6 I/O0 (io) "Data Input / Output", C3 A5 (in) "Address Input", C4 A6 (in) "Address Input", C5 I/O1 (io) "Data Input / Output", C6 I/O2 (io) "Data Input / Output", D1 GND (power) "Ground", D3 A17 (in) "Address Input", D4 A7 (in) "Address Input", D5 I/O3 (io) "Data Input / Output", D6 VDD (power) "Power", E1 VDD (power) "Power", E4 A16 (in) "Address Input", E5 I/O4 (io) "Data Input / Output", E6 GND (power) "Ground", F3 A14 (in) "Address Input", F4 A15 (in) "Address Input", F5 I/O5 (io) "Data Input / Output", F6 I/O6 (io) "Data Input / Output", G2 A19 (in) "Address Input", G3 A12 (in) "Address Input", G4 A13 (in) "Address Input", G5 ~{WE} (in) "Write Enable Input", G6 I/O7 (io) "Data Input / Output", H1 A18 (in) "Address Input", H2 A8 (in) "Address Input", H3 A9 (in) "Address Input", H4 A10 (in) "Address Input", H5 A11 (in) "Address Input", H6 A20 (in) "Address Input"
part B pins: A1 NC "No Connection", A6 NC "No Connection", B1 NC "No Connection", B2 NC "No Connection", C1 NC "No Connection", C2 NC "No Connection", D2 NC "No Connection", E2 NC "No Connection", E3 NC "No Connection", F1 NC "No Connection", F2 NC "No Connection", G1 NC "No Connection"

## IS61WV20488BLL-10MLI
designator U?
16 M High Speed CMOS SRAM, 2 M x 8, -40 to 85 degC, 48-Pin BGA (TF-BGA-48), Pb-Free; Manufacturer: Integrated Silicon Solution Inc (ISSI); PartNumber: IS61WV20488BLL-10MLI; Organization: 2M x 8; Packing: Tray / Tube; Speed (ns): 10; DatasheetVersion: Rev. B; PackageVersion: Rev. B, 08/2008; PackageReference: TF-BGA-48; PackageDescription: 48-Pin 9 x 11 mm TF-BGA, Pitch 0.75 mm; Supplier 1: Digi-Key; Supplier Part Number 1: IS61WV20488BLL-10MLI-ND; Supplier 2: Farnell; Supplier Part Number 2: 2253842; Supplier 3: Newark; Supplier Part Number 3: 53W9305; Supplier 4: Newark; Supplier Part Number 4: 43M5387; Supplier 5: Mouser; Supplier Part Number 5: 870-61WV20488B10MLI; RoHS: Pb-Free; Mounting Technology: Surface Mount; Code_JEDEC: MO-207; ComponentLink1Description: Manufacturer URL; ComponentLink1URL: http://www.issi.com/US/index.shtml; ComponentLink2Description: Datasheet; ComponentLink2URL: http://www.issi.com/WW/pdf/61-64WV20488.pdf; ComponentLink3Description: Package Specification; ComponentLink3URL: http://www.issi.com/WW/pdf/61-64WV51216.pdf
footprint ISSI-TF-BGA-48-9000x11000DE (BGA, 48-Balls, Body 11x9mm, Pitch 0.75mm)
part A pins: A2 ~{OE} (in) "Output Enable Input", A3 A0 (in) "Address Input", A4 A1 (in) "Address Input", A5 A2 (in) "Address Input", B3 A3 (in) "Address Input", B4 A4 (in) "Address Input", B5 ~{CE} (in) "Chip Enable Input", B6 I/O0 (io) "Data Input / Output", C3 A5 (in) "Address Input", C4 A6 (in) "Address Input", C5 I/O1 (io) "Data Input / Output", C6 I/O2 (io) "Data Input / Output", D1 GND (power) "Ground", D3 A17 (in) "Address Input", D4 A7 (in) "Address Input", D5 I/O3 (io) "Data Input / Output", D6 VDD (power) "Power", E1 VDD (power) "Power", E4 A16 (in) "Address Input", E5 I/O4 (io) "Data Input / Output", E6 GND (power) "Ground", F3 A14 (in) "Address Input", F4 A15 (in) "Address Input", F5 I/O5 (io) "Data Input / Output", F6 I/O6 (io) "Data Input / Output", G2 A19 (in) "Address Input", G3 A12 (in) "Address Input", G4 A13 (in) "Address Input", G5 ~{WE} (in) "Write Enable Input", G6 I/O7 (io) "Data Input / Output", H1 A18 (in) "Address Input", H2 A8 (in) "Address Input", H3 A9 (in) "Address Input", H4 A10 (in) "Address Input", H5 A11 (in) "Address Input", H6 A20 (in) "Address Input"
part B pins: A1 NC "No Connection", A6 NC "No Connection", B1 NC "No Connection", B2 NC "No Connection", C1 NC "No Connection", C2 NC "No Connection", D2 NC "No Connection", E2 NC "No Connection", E3 NC "No Connection", F1 NC "No Connection", F2 NC "No Connection", G1 NC "No Connection"

## IS61WV20488BLL-10MLI-TR
designator U?
16 M High Speed CMOS SRAM, 2 M x 8, -40 to 85 degC, 48-Pin BGA (TF-BGA-48), Pb-Free; Manufacturer: Integrated Silicon Solution Inc (ISSI); PartNumber: IS61WV20488BLL-10MLI-TR; Organization: 2M x 8; Packing: Tape & Reel; Speed (ns): 10; DatasheetVersion: Rev. B; PackageVersion: Rev. B, 08/2008; PackageReference: TF-BGA-48; PackageDescription: 48-Pin 9 x 11 mm TF-BGA, Pitch 0.75 mm; Supplier 1: Digi-Key; Supplier Part Number 1: IS61WV20488BLL-10MLI-TR-ND; Supplier 2: Mouser; Supplier Part Number 2: 870-61WV20488B10MLIT; RoHS: Pb-Free; Mounting Technology: Surface Mount; Code_JEDEC: MO-207; ComponentLink1Description: Manufacturer URL; ComponentLink1URL: http://www.issi.com/US/index.shtml; ComponentLink2Description: Datasheet; ComponentLink2URL: http://www.issi.com/WW/pdf/61-64WV20488.pdf; ComponentLink3Description: Package Specification; ComponentLink3URL: http://www.issi.com/WW/pdf/61-64WV51216.pdf
footprint ISSI-TF-BGA-48-9000x11000DE (BGA, 48-Balls, Body 11x9mm, Pitch 0.75mm)
part A pins: A2 ~{OE} (in) "Output Enable Input", A3 A0 (in) "Address Input", A4 A1 (in) "Address Input", A5 A2 (in) "Address Input", B3 A3 (in) "Address Input", B4 A4 (in) "Address Input", B5 ~{CE} (in) "Chip Enable Input", B6 I/O0 (io) "Data Input / Output", C3 A5 (in) "Address Input", C4 A6 (in) "Address Input", C5 I/O1 (io) "Data Input / Output", C6 I/O2 (io) "Data Input / Output", D1 GND (power) "Ground", D3 A17 (in) "Address Input", D4 A7 (in) "Address Input", D5 I/O3 (io) "Data Input / Output", D6 VDD (power) "Power", E1 VDD (power) "Power", E4 A16 (in) "Address Input", E5 I/O4 (io) "Data Input / Output", E6 GND (power) "Ground", F3 A14 (in) "Address Input", F4 A15 (in) "Address Input", F5 I/O5 (io) "Data Input / Output", F6 I/O6 (io) "Data Input / Output", G2 A19 (in) "Address Input", G3 A12 (in) "Address Input", G4 A13 (in) "Address Input", G5 ~{WE} (in) "Write Enable Input", G6 I/O7 (io) "Data Input / Output", H1 A18 (in) "Address Input", H2 A8 (in) "Address Input", H3 A9 (in) "Address Input", H4 A10 (in) "Address Input", H5 A11 (in) "Address Input", H6 A20 (in) "Address Input"
part B pins: A1 NC "No Connection", A6 NC "No Connection", B1 NC "No Connection", B2 NC "No Connection", C1 NC "No Connection", C2 NC "No Connection", D2 NC "No Connection", E2 NC "No Connection", E3 NC "No Connection", F1 NC "No Connection", F2 NC "No Connection", G1 NC "No Connection"

## IS61WV20488BLL-10TI
designator U?
16 M High Speed CMOS SRAM, 2 M x 8, -40 to 85 degC, 44-Pin SOP (TSOP-2-44); Manufacturer: Integrated Silicon Solution Inc (ISSI); PartNumber: IS61WV20488BLL-10TI; Organization: 2M x 8; Packing: Tray / Tube; Speed (ns): 10; DatasheetVersion: Rev. B; PackageVersion: Rev. F, 06/2008; PackageReference: TSOP-2-44; PackageDescription: 44-Pin 400 mil TSOP-2, Body 18.41 x 10.16 mm, Pitch 0.8 mm; Mounting Technology: Surface Mount; ComponentLink1Description: Manufacturer URL; ComponentLink1URL: http://www.issi.com/US/index.shtml; ComponentLink2Description: Datasheet; ComponentLink2URL: http://www.issi.com/WW/pdf/61-64WV20488.pdf; ComponentLink3Description: Package Specification; ComponentLink3URL: http://www.issi.com/WW/pdf/61-64WV6416EEBLL.pdf
footprint ISSI-TSOP-2-44_N (SOP, 44-Leads, Body 18.5x10.3mm, Pitch 0.8mm, IPC Medium Density)
part A pins: 3 A0 (in) "Address Inputs", 4 A1 (in) "Address Inputs", 5 A2 (in) "Address Inputs", 6 A3 (in) "Address Inputs", 7 A4 (in) "Address Inputs", 8 ~{CE} (in) "Chip Enable Input", 9 I/O0 (io) "Data Input / Output", 10 I/O1 (io) "Data Input / Output", 11 VDD (power) "Power", 12 GND (power) "Ground", 13 I/O2 (io) "Data Input / Output", 14 I/O3 (io) "Data Input / Output", 15 ~{WE} (in) "Write Enable Input", 16 A5 (in) "Address Inputs", 17 A6 (in) "Address Inputs", 18 A7 (in) "Address Inputs", 19 A8 (in) "Address Inputs", 20 A9 (in) "Address Inputs", 25 A19 (in) "Address Inputs", 26 A10 (in) "Address Inputs", 27 A11 (in) "Address Inputs", 28 A12 (in) "Address Inputs", 29 A13 (in) "Address Inputs", 30 A14 (in) "Address Inputs", 31 I/O4 (io) "Data Input / Output", 32 I/O5 (io) "Data Input / Output", 33 VDD (power) "Power", 34 GND (power) "Ground", 35 I/O6 (io) "Data Input / Output", 36 I/O7 (io) "Data Input / Output", 37 ~{OE} (in) "Output Enable Input", 38 A15 (in) "Address Inputs", 39 A16 (in) "Address Inputs", 40 A17 (in) "Address Inputs", 41 A18 (in) "Address Inputs", 42 A20 (in) "Address Inputs"
part B pins: 1 NC "No Connection", 2 NC "No Connection", 21 NC "No Connection", 22 NC "No Connection", 23 NC "No Connection", 24 NC "No Connection", 43 NC "No Connection", 44 NC "No Connection"

## IS61WV20488BLL-10TI-TR
designator U?
16 M High Speed CMOS SRAM, 2 M x 8, -40 to 85 degC, 44-Pin SOP (TSOP-2-44); Manufacturer: Integrated Silicon Solution Inc (ISSI); PartNumber: IS61WV20488BLL-10TI-TR; Organization: 2M x 8; Packing: Tape & Reel; Speed (ns): 10; DatasheetVersion: Rev. B; PackageVersion: Rev. F, 06/2008; PackageReference: TSOP-2-44; PackageDescription: 44-Pin 400 mil TSOP-2, Body 18.41 x 10.16 mm, Pitch 0.8 mm; Mounting Technology: Surface Mount; ComponentLink1Description: Manufacturer URL; ComponentLink1URL: http://www.issi.com/US/index.shtml; ComponentLink2Description: Datasheet; ComponentLink2URL: http://www.issi.com/WW/pdf/61-64WV20488.pdf; ComponentLink3Description: Package Specification; ComponentLink3URL: http://www.issi.com/WW/pdf/61-64WV6416EEBLL.pdf
footprint ISSI-TSOP-2-44_N (SOP, 44-Leads, Body 18.5x10.3mm, Pitch 0.8mm, IPC Medium Density)
part A pins: 3 A0 (in) "Address Inputs", 4 A1 (in) "Address Inputs", 5 A2 (in) "Address Inputs", 6 A3 (in) "Address Inputs", 7 A4 (in) "Address Inputs", 8 ~{CE} (in) "Chip Enable Input", 9 I/O0 (io) "Data Input / Output", 10 I/O1 (io) "Data Input / Output", 11 VDD (power) "Power", 12 GND (power) "Ground", 13 I/O2 (io) "Data Input / Output", 14 I/O3 (io) "Data Input / Output", 15 ~{WE} (in) "Write Enable Input", 16 A5 (in) "Address Inputs", 17 A6 (in) "Address Inputs", 18 A7 (in) "Address Inputs", 19 A8 (in) "Address Inputs", 20 A9 (in) "Address Inputs", 25 A19 (in) "Address Inputs", 26 A10 (in) "Address Inputs", 27 A11 (in) "Address Inputs", 28 A12 (in) "Address Inputs", 29 A13 (in) "Address Inputs", 30 A14 (in) "Address Inputs", 31 I/O4 (io) "Data Input / Output", 32 I/O5 (io) "Data Input / Output", 33 VDD (power) "Power", 34 GND (power) "Ground", 35 I/O6 (io) "Data Input / Output", 36 I/O7 (io) "Data Input / Output", 37 ~{OE} (in) "Output Enable Input", 38 A15 (in) "Address Inputs", 39 A16 (in) "Address Inputs", 40 A17 (in) "Address Inputs", 41 A18 (in) "Address Inputs", 42 A20 (in) "Address Inputs"
part B pins: 1 NC "No Connection", 2 NC "No Connection", 21 NC "No Connection", 22 NC "No Connection", 23 NC "No Connection", 24 NC "No Connection", 43 NC "No Connection", 44 NC "No Connection"

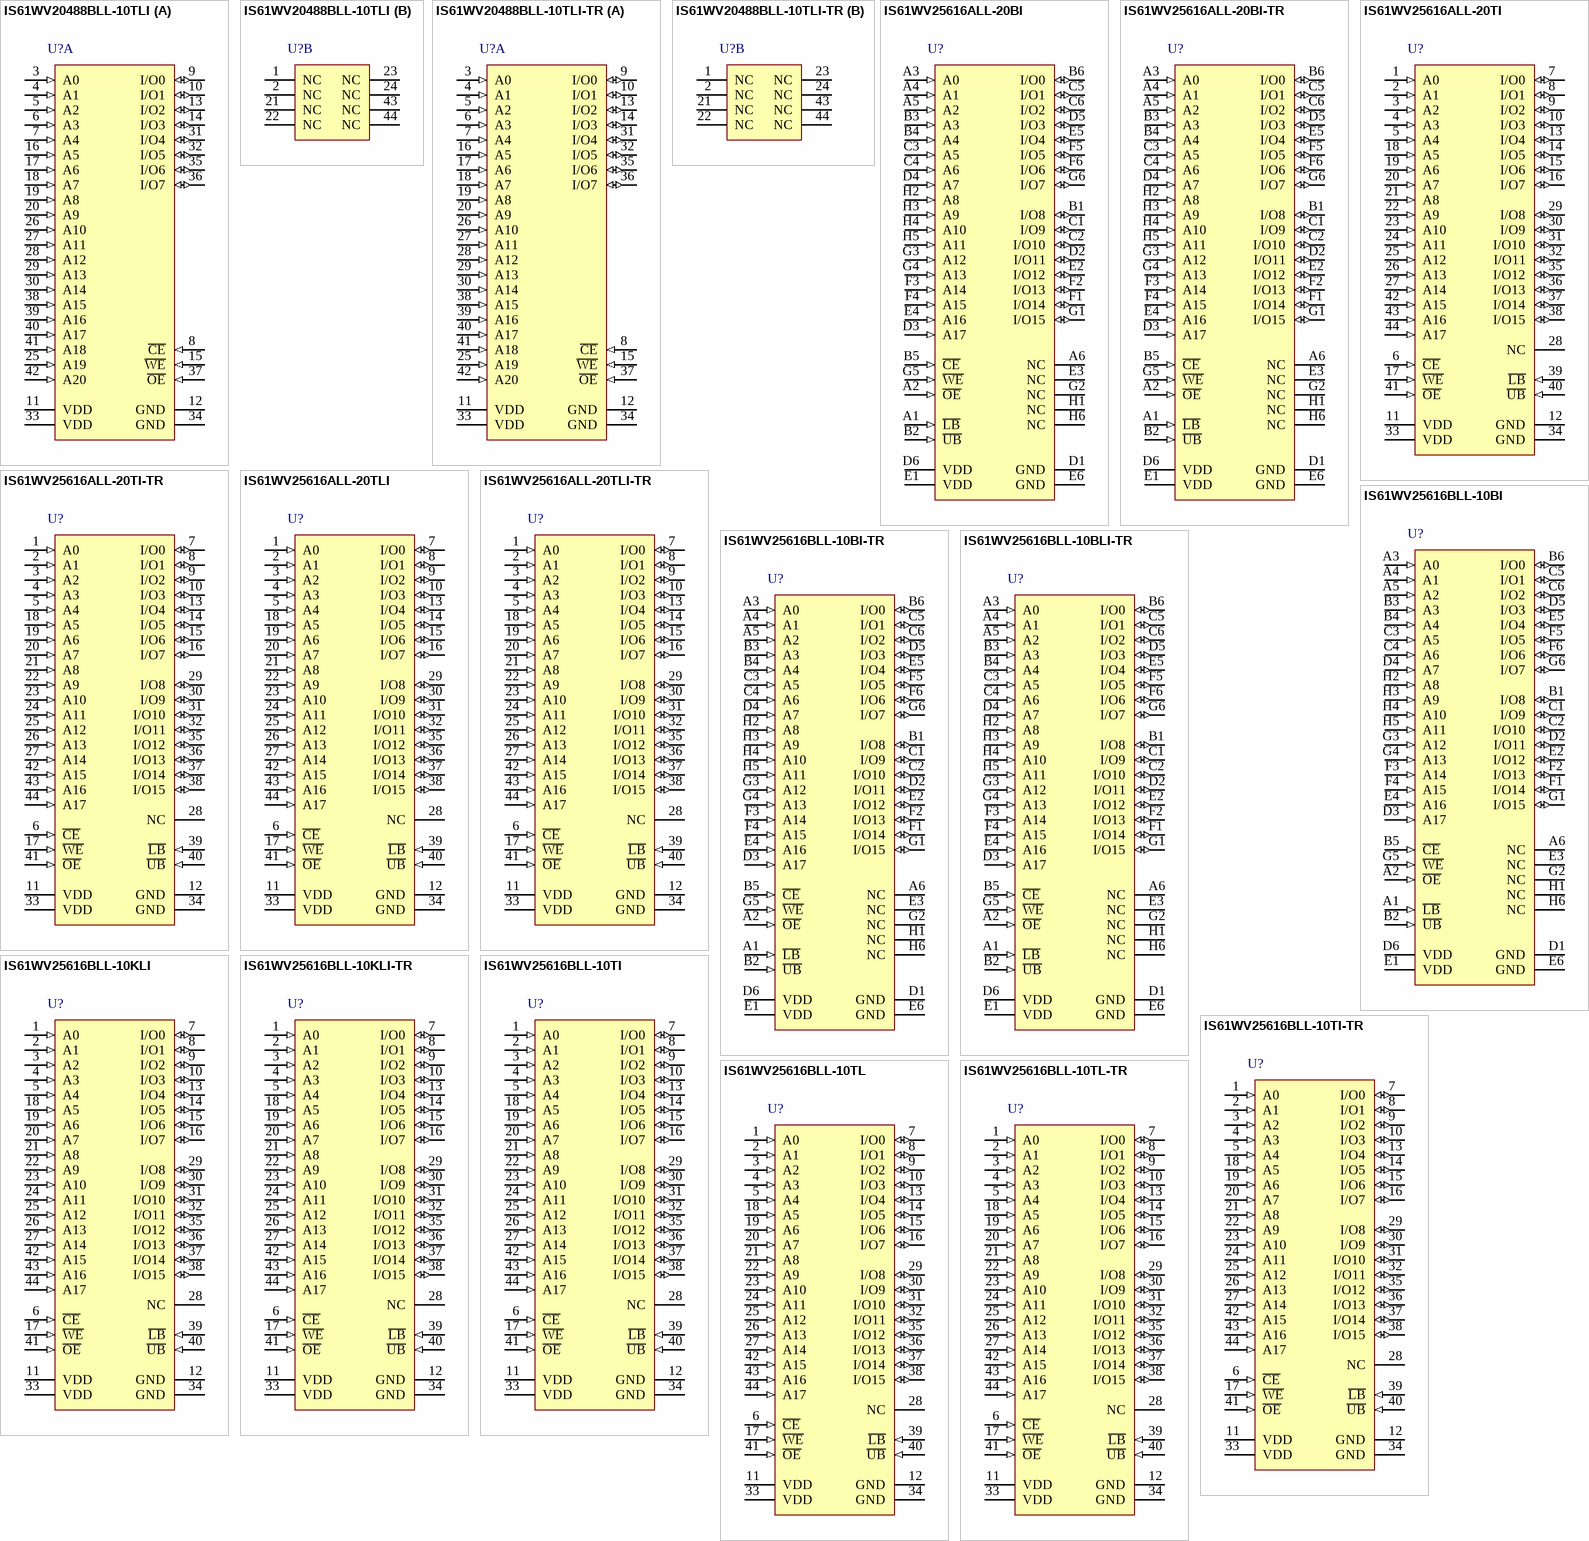
[diagram p16: symbols IS61WV20488BLL-10TLI to IS61WV25616BLL-10TL-TR]

## IS61WV20488BLL-10TLI
designator U?
16 M High Speed CMOS SRAM, 2 M x 8, -40 to 85 degC, 44-Pin SOP (TSOP-2-44), Pb-Free; Manufacturer: Integrated Silicon Solution Inc (ISSI); PartNumber: IS61WV20488BLL-10TLI; Organization: 2M x 8; Packing: Tray / Tube; Speed (ns): 10; DatasheetVersion: Rev. B; PackageVersion: Rev. F, 06/2008; PackageReference: TSOP-2-44; PackageDescription: 44-Pin 400 mil TSOP-2, Body 18.41 x 10.16 mm, Pitch 0.8 mm; Supplier 1: Digi-Key; Supplier Part Number 1: IS61WV20488BLL-10TLI-ND; Supplier 2: Farnell; Supplier Part Number 2: 2253841; Supplier 3: Newark; Supplier Part Number 3: 53W9306; Supplier 4: Newark; Supplier Part Number 4: 43M5389; Supplier 5: Mouser; Supplier Part Number 5: 87061WV20488BLL10TLI; RoHS: Pb-Free; Mounting Technology: Surface Mount; ComponentLink1Description: Manufacturer URL; ComponentLink1URL: http://www.issi.com/US/index.shtml; ComponentLink2Description: Datasheet; ComponentLink2URL: http://www.issi.com/WW/pdf/61-64WV20488.pdf; ComponentLink3Description: Package Specification; ComponentLink3URL: http://www.issi.com/WW/pdf/61-64WV6416EEBLL.pdf
footprint ISSI-TSOP-2-44_N (SOP, 44-Leads, Body 18.5x10.3mm, Pitch 0.8mm, IPC Medium Density)
part A pins: 3 A0 (in) "Address Inputs", 4 A1 (in) "Address Inputs", 5 A2 (in) "Address Inputs", 6 A3 (in) "Address Inputs", 7 A4 (in) "Address Inputs", 8 ~{CE} (in) "Chip Enable Input", 9 I/O0 (io) "Data Input / Output", 10 I/O1 (io) "Data Input / Output", 11 VDD (power) "Power", 12 GND (power) "Ground", 13 I/O2 (io) "Data Input / Output", 14 I/O3 (io) "Data Input / Output", 15 ~{WE} (in) "Write Enable Input", 16 A5 (in) "Address Inputs", 17 A6 (in) "Address Inputs", 18 A7 (in) "Address Inputs", 19 A8 (in) "Address Inputs", 20 A9 (in) "Address Inputs", 25 A19 (in) "Address Inputs", 26 A10 (in) "Address Inputs", 27 A11 (in) "Address Inputs", 28 A12 (in) "Address Inputs", 29 A13 (in) "Address Inputs", 30 A14 (in) "Address Inputs", 31 I/O4 (io) "Data Input / Output", 32 I/O5 (io) "Data Input / Output", 33 VDD (power) "Power", 34 GND (power) "Ground", 35 I/O6 (io) "Data Input / Output", 36 I/O7 (io) "Data Input / Output", 37 ~{OE} (in) "Output Enable Input", 38 A15 (in) "Address Inputs", 39 A16 (in) "Address Inputs", 40 A17 (in) "Address Inputs", 41 A18 (in) "Address Inputs", 42 A20 (in) "Address Inputs"
part B pins: 1 NC "No Connection", 2 NC "No Connection", 21 NC "No Connection", 22 NC "No Connection", 23 NC "No Connection", 24 NC "No Connection", 43 NC "No Connection", 44 NC "No Connection"

## IS61WV20488BLL-10TLI-TR
designator U?
16 M High Speed CMOS SRAM, 2 M x 8, -40 to 85 degC, 44-Pin SOP (TSOP-2-44), Pb-Free; Manufacturer: Integrated Silicon Solution Inc (ISSI); PartNumber: IS61WV20488BLL-10TLI-TR; Organization: 2M x 8; Packing: Tape & Reel; Speed (ns): 10; DatasheetVersion: Rev. B; PackageVersion: Rev. F, 06/2008; PackageReference: TSOP-2-44; PackageDescription: 44-Pin 400 mil TSOP-2, Body 18.41 x 10.16 mm, Pitch 0.8 mm; Supplier 1: Digi-Key; Supplier Part Number 1: IS61WV20488BLL-10TLI-TR-ND; Supplier 2: Mouser; Supplier Part Number 2: 87061WV20488BLL1TLIT; RoHS: Pb-Free; Mounting Technology: Surface Mount; ComponentLink1Description: Manufacturer URL; ComponentLink1URL: http://www.issi.com/US/index.shtml; ComponentLink2Description: Datasheet; ComponentLink2URL: http://www.issi.com/WW/pdf/61-64WV20488.pdf; ComponentLink3Description: Package Specification; ComponentLink3URL: http://www.issi.com/WW/pdf/61-64WV6416EEBLL.pdf
footprint ISSI-TSOP-2-44_N (SOP, 44-Leads, Body 18.5x10.3mm, Pitch 0.8mm, IPC Medium Density)
part A pins: 3 A0 (in) "Address Inputs", 4 A1 (in) "Address Inputs", 5 A2 (in) "Address Inputs", 6 A3 (in) "Address Inputs", 7 A4 (in) "Address Inputs", 8 ~{CE} (in) "Chip Enable Input", 9 I/O0 (io) "Data Input / Output", 10 I/O1 (io) "Data Input / Output", 11 VDD (power) "Power", 12 GND (power) "Ground", 13 I/O2 (io) "Data Input / Output", 14 I/O3 (io) "Data Input / Output", 15 ~{WE} (in) "Write Enable Input", 16 A5 (in) "Address Inputs", 17 A6 (in) "Address Inputs", 18 A7 (in) "Address Inputs", 19 A8 (in) "Address Inputs", 20 A9 (in) "Address Inputs", 25 A19 (in) "Address Inputs", 26 A10 (in) "Address Inputs", 27 A11 (in) "Address Inputs", 28 A12 (in) "Address Inputs", 29 A13 (in) "Address Inputs", 30 A14 (in) "Address Inputs", 31 I/O4 (io) "Data Input / Output", 32 I/O5 (io) "Data Input / Output", 33 VDD (power) "Power", 34 GND (power) "Ground", 35 I/O6 (io) "Data Input / Output", 36 I/O7 (io) "Data Input / Output", 37 ~{OE} (in) "Output Enable Input", 38 A15 (in) "Address Inputs", 39 A16 (in) "Address Inputs", 40 A17 (in) "Address Inputs", 41 A18 (in) "Address Inputs", 42 A20 (in) "Address Inputs"
part B pins: 1 NC "No Connection", 2 NC "No Connection", 21 NC "No Connection", 22 NC "No Connection", 23 NC "No Connection", 24 NC "No Connection", 43 NC "No Connection", 44 NC "No Connection"

## IS61WV25616ALL-20BI
designator U?
4 M High Speed Asynchronous CMOS SRAM, 256 K x 16, -40 to 85 degC, 48-Pin BGA (TF-BGA-48); Manufacturer: Integrated Silicon Solution Inc (ISSI); PartNumber: IS61WV25616ALL-20BI; Packing: Tray / Tube; Speed (ns): 20; DatasheetVersion: Rev. H; PackageVersion: Rev. C, 08/2008; PackageReference: TF-BGA-48; PackageDescription: 48-Pin 6 x 8 mm TF-BGA, Pitch 0.75 mm; Organization: 256K x 16; Mounting Technology: Surface Mount; Code_JEDEC: MO-207; ComponentLink1Description: Manufacturer URL; ComponentLink1URL: http://www.issi.com/US/index.shtml; ComponentLink2Description: Datasheet; ComponentLink2URL: http://www.issi.com/WW/pdf/61-64WV25616.pdf; ComponentLink3Description: Package Specification; ComponentLink3URL: http://www.issi.com/WW/pdf/61-64WV25616.pdf
footprint ISSI-TF-BGA-48-6000X8000DE (BGA, 48-Balls, Body 8x6mm, Pitch 0.75mm)
pins: A1 ~{LB} (in) "Lower-byte Control (I/O0-I/O7)", A2 ~{OE} (in) "Output Enable Input", A3 A0 (in) "Address Input", A4 A1 (in) "Address Input", A5 A2 (in) "Address Input", A6 NC "No Connection", B1 I/O8 (io) "Data Input/Output", B2 ~{UB} (in) "Upper-byte Control (I/O8-I/O15)", B3 A3 (in) "Address Input", B4 A4 (in) "Address Input", B5 ~{CE} (in) "Chip Enable Input", B6 I/O0 (io) "Data Input/Output", C1 I/O9 (io) "Data Input/Output", C2 I/O10 (io) "Data Input/Output", C3 A5 (in) "Address Input", C4 A6 (in) "Address Input", C5 I/O1 (io) "Data Input/Output", C6 I/O2 (io) "Data Input/Output", D1 GND (power) "Ground", D2 I/O11 (io) "Data Input/Output", D3 A17 (in) "Address Input", D4 A7 (in) "Address Input", D5 I/O3 (io) "Data Input/Output", D6 VDD (power) "Power", E1 VDD (power) "Power", E2 I/O12 (io) "Data Input/Output", E3 NC "No Connection", E4 A16 (in) "Address Input", E5 I/O4 (io) "Data Input/Output", E6 GND (power) "Ground", F1 I/O14 (io) "Data Input/Output", F2 I/O13 (io) "Data Input/Output", F3 A14 (in) "Address Input", F4 A15 (in) "Address Input", F5 I/O5 (io) "Data Input/Output", F6 I/O6 (io) "Data Input/Output", G1 I/O15 (io) "Data Input/Output", G2 NC "No Connection", G3 A12 (in) "Address Input", G4 A13 (in) "Address Input", G5 ~{WE} (in) "Write Enable Input", G6 I/O7 (io) "Data Input/Output", H1 NC "No Connection", H2 A8 (in) "Address Input", H3 A9 (in) "Address Input", H4 A10 (in) "Address Input", H5 A11 (in) "Address Input", H6 NC "No Connection"